# EAGLE library part CS5463 (library PowerSocket)
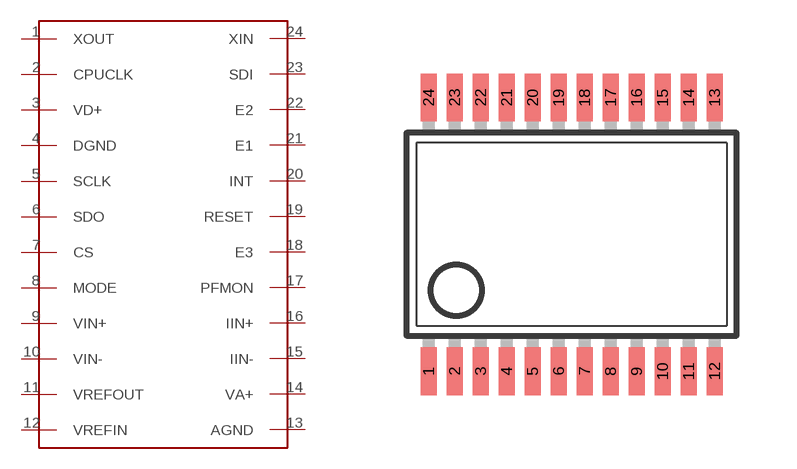
[diagram p2: symbol with the pads of SSOP24; footprint SSOP24]

Designator prefix -

## CS5463  [SSOP24]
1  XOUT
2  CPUCLK
3  VD+
4  DGND
5  SCLK
6  SDO
7  CS
8  MODE
9  VIN+
10  VIN-
11  VREFOUT
12  VREFIN
13  AGND
14  VA+
15  IIN-
16  IIN+
17  PFMON
18  E3
19  RESET
20  INT
21  E1
22  E2
23  SDI
24  XIN

## Footprint SSOP24 (pad centres in mm)
Small Shrink Outline Package SOT340-1 / JEDEC MO-150AG
smd 0.4 x 1.2: 1 -3.575,-3.42; 2 -2.925,-3.42; 3 -2.275,-3.42; 4 -1.625,-3.42; 5 -0.975,-3.42; 6 -0.325,-3.42; 7 0.325,-3.42; 8 0.975,-3.42; 9 1.625,-3.42; 10 2.275,-3.42; 11 2.925,-3.42; 12 3.575,-3.42; 13 3.575,3.42; 14 2.925,3.42; 15 2.275,3.42; 16 1.625,3.42; 17 0.975,3.42; 18 0.325,3.42; 19 -0.325,3.42; 20 -0.975,3.42; 21 -1.625,3.42; 22 -2.275,3.42; 23 -2.925,3.42; 24 -3.575,3.42